# Altium footprint library L-Inductor_Choke.PCBLIB: 26 footprints (part 1 of 2)
Each footprint in its own frame and in the unit in brackets; x right, y up, seen from the top. Pads: shape width x height; smd on the part's side, far side on the other; paste and mask are expansions set on the pad; w line width, h text height; cw(c..) or ccw(c..) is an arc to the next point about the centre after c.
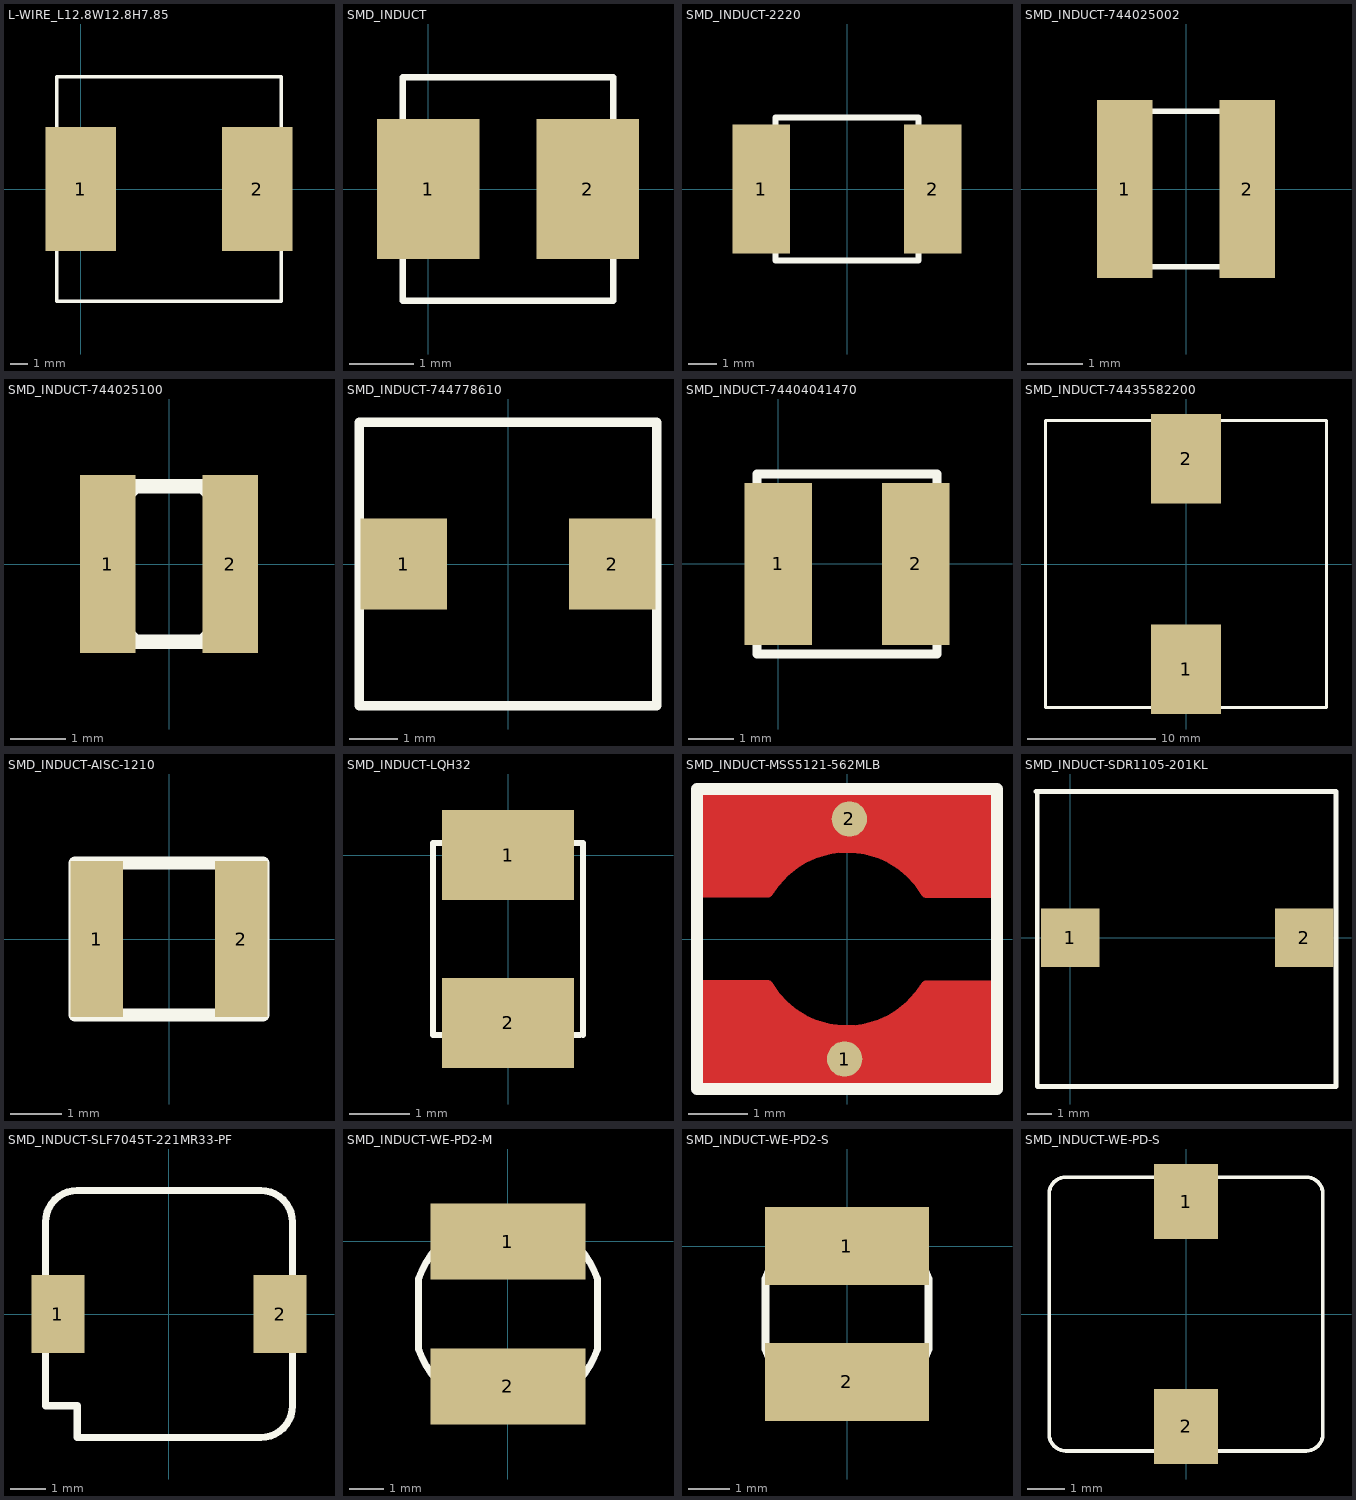
[diagram p0: the footprints below, top view; thin cyan lines are the x and y axes]

## L-WIRE_L12.8W12.8H7.85 [mm] "L-WIRE_L12.8W12.8H7.85"
height 8
pads (2):
  rect 4x7 smd: 1(0,0) 2(10,0)
Top Overlay:
  lines w0.2: -1.35,-6.35 11.35,-6.35 11.35,6.35 -1.35,6.35 -1.35,-6.35

## SMD_INDUCT [mm]
pads (2):
  rect 1.6x2.2 smd: 1(0,0) 2(2.5,0)
Top Overlay:
  lines w0.1: -0.4,-1.75 2.9,-1.75 2.9,1.75 -0.4,1.75 -0.4,-1.75

## SMD_INDUCT-2220 [mm] "SMD_INDUCT-2220"
height 5
pads (2):
  rect 2x4.5 smd: 1(-3,0) 2(3,0)
Top Overlay:
  lines w0.2: -2.5,-2.5 2.5,-2.5 2.5,2.5 -2.5,2.5 -2.5,-2.5

## SMD_INDUCT-744025002 [mm] "FIXED IND 2.2UH 1.8A 66 MOHM SMD"
height 2.8
pads (2):
  rect 1x3.2 smd: 1(-1.1,0) 2(1.1,0)
Top Overlay:
  lines w0.1: -1.4,-0.8 -1.4,0.8 -0.8,1.4 0.8,1.4 1.4,0.8 1.4,-0.8 0.8,-1.4 -0.8,-1.4 -1.4,-0.8

## SMD_INDUCT-744025100 [mm] "SMD_INDUCT-744025100"
height 2.8
pads (2):
  rect 1x3.2 smd: 1(-1.1,0) 2(1.1,0)
Top Overlay:
  lines w0.254: -1.4,-0.6 -1.4,0.6 -0.6,1.4 0.6,1.4 1.4,0.6 1.4,-0.6 0.6,-1.4 -0.6,-1.4 -1.4,-0.6

## SMD_INDUCT-744778610 [mm]
height 5.1
pads (2):
  rect 1.8x1.9 smd: 1(-2.175,0) 2(2.175,0)
Top Overlay:
  lines w0.2: -3.1,-2.95 3.1,-2.95 3.1,2.95 -3.1,2.95 -3.1,-2.95

## SMD_INDUCT-74404041470 [mm]
height 1.2
pads (2):
  rect 1.5x3.6 smd: 1(0,0) 2(3.05,0)
Top Overlay:
  lines w0.2: -0.475,-2 -0.475,2 3.525,2 3.525,-2 -0.475,-2

## SMD_INDUCT-74435582200 [mm] "SMD_INDUCT-74435582200"
height 12
pads (2):
  rect 5.5x7 smd: 1(0,-8.25) 2(0,8.25)
Top Overlay:
  lines w0.254: -11,-11.25 11,-11.25 11,11.25 -11,11.25 -11,-11.25

## SMD_INDUCT-AISC-1210 [mm]
height 2.7
pads (2):
  rect 1.02x3.02 smd: 1(-1.4,0) 2(1.4,0)
Top Overlay:
  lines w0.254: -1.825,-1.475 -1.825,1.475 1.825,1.475 1.825,-1.475 -1.825,-1.475

## SMD_INDUCT-LQH32 [mm]
pads (2):
  rect 2.2x1.5 smd: 1(0,0) 2(0,-2.8)
Top Overlay:
  lines w0.1: 1.2,-3 0.9,-3 -1.25,-3 -1.25,0.2 1.25,0.2 1.25,-3

## SMD_INDUCT-MSS5121-562MLB [mm] "SMD_INDUCT-MSS5121-562MLB"
height 2.2
pads (2):
  round 0.6 smd: 1(-0.04,-2.04) 2(0.04,2.04)
Top Layer:
  rectangle: -2.54,-2.54 -1.33,-0.8
  rectangle: 1.347,-2.54 2.54,-0.804
  rectangle: -1.41,-2.54 1.44,-1.59
  region: 2.54,2.54 1.33,2.54 1.33,0.8 2.54,0.8
  region: -1.347,2.54 -2.54,2.54 -2.54,0.804 -1.347,0.804
  region: 1.41,2.54 -1.44,2.54 -1.44,1.59 1.41,1.59
  lines w0.2: -2.54,0.8 -2.54,2.54 2.54,2.54 2.54,0.8 1.35,0.8 ccw(c0,0) -1.347,0.804 -2.536,0.804 ; 2.536,-0.804 1.347,-0.804 cw(c0,0) -1.35,-0.8 -2.54,-0.8 -2.54,-2.54 2.54,-2.54 2.54,-0.8
  lines w0.5: -1.555,-1.048 ccw(c0,0) 1.468,-1.167 ; -1.468,1.167 cw(c0,0) 1.555,1.048
Top Overlay:
  lines w0.2: -2.55,-2.55 -2.55,2.55 2.55,2.55 2.55,-2.55 -2.55,-2.55
Top Paste:
  region: 1.41,2.54 -1.44,2.54 -1.44,1.59 1.41,1.59
  region: -1.347,2.54 -2.54,2.54 -2.54,0.804 -1.347,0.804
  region: 2.54,2.54 1.33,2.54 1.33,0.8 2.54,0.8
  rectangle: -1.41,-2.54 1.44,-1.59
  rectangle: 1.347,-2.54 2.54,-0.804
  rectangle: -2.54,-2.54 -1.33,-0.8
  lines w0.2: -2.54,0.8 -2.54,2.54 2.54,2.54 2.54,0.8 1.35,0.8 ccw(c0,0) -1.347,0.804 -2.536,0.804 ; 2.536,-0.804 1.347,-0.804 cw(c0,0) -1.35,-0.8 -2.54,-0.8 -2.54,-2.54 2.54,-2.54 2.54,-0.8
  lines w0.5: -1.555,-1.048 ccw(c0,0) 1.468,-1.167 ; -1.468,1.167 cw(c0,0) 1.555,1.048
Top Solder:
  region: 1.41,2.54 -1.44,2.54 -1.44,1.59 1.41,1.59
  region: -1.347,2.54 -2.54,2.54 -2.54,0.804 -1.347,0.804
  region: 2.54,2.54 1.33,2.54 1.33,0.8 2.54,0.8
  rectangle: -1.41,-2.54 1.44,-1.59
  rectangle: 1.347,-2.54 2.54,-0.804
  rectangle: -2.54,-2.54 -1.33,-0.8
  lines w0.403: -2.54,0.8 -2.54,2.54 2.54,2.54 2.54,0.8 1.35,0.8 ccw(c0,0) -1.347,0.804 -2.536,0.804 ; 2.536,-0.804 1.347,-0.804 cw(c0,0) -1.35,-0.8 -2.54,-0.8 -2.54,-2.54 2.54,-2.54 2.54,-0.8
  lines w0.5: -1.555,-1.048 ccw(c0,0) 1.468,-1.167 ; -1.468,1.167 cw(c0,0) 1.555,1.048

## SMD_INDUCT-SDR1105-201KL [mm] "SMD_INDUCT-SDR1105-201KL"
height 4.8
pads (2):
  rect 2.4x2.4 smd: 1(0,0) 2(9.6,0)
Top Overlay:
  lines w0.2: -1.4,6 10.9,6 10.9,-6.1 -1.35,-6.1 -1.35,5.9

## SMD_INDUCT-SLF7045T-221MR33-PF [mm] "SLF7045T-221MR33-PF"
height 4.8
pads (2):
  rect 1.5x2.2 smd: 1(-3.15,0) 2(3.15,0)
Top Overlay:
  lines w0.2: -3.5,-2.6 -2.6,-2.6 -2.6,-3.5 2.6,-3.5 ccw(c2.6,-2.6) 3.5,-2.6 3.5,2.6 ccw(c2.6,2.6) 2.6,3.5 -2.6,3.5 ccw(c-2.6,2.6) -3.5,2.6 -3.5,-2.6

## SMD_INDUCT-WE-PD2-M [mm]
pads (2):
  rect 4.5x2.2 smd: 1(0.01,-0.005) 2(0.01,-4.205)
Top Overlay:
  lines w0.2: -2.59,-3.105 ccw(c0.01,-2.205) 2.61,-3.105 2.61,-1.105 ccw(c0.01,-2.005) -2.59,-1.105 -2.59,-3.105

## SMD_INDUCT-WE-PD2-S [mm]
pads (2):
  rect 4x1.9 smd: 1(-0.002,0.001) 2(-0.002,-3.3)
Top Overlay:
  lines w0.2: -1.987,-2.486 ccw(c-0.002,-1.8) 1.982,-2.486 1.982,-0.813 ccw(c-0.002,-1.5) -1.987,-0.813 -1.987,-2.486

## SMD_INDUCT-WE-PD-S [mm]
pads (2):
  rect 1.7x2 smd: 1(0,3) 2(0,-3)
Top Overlay:
  lines w0.1: -3.65,-3.2 ccw(c-3.2,-3.2) -3.2,-3.65 0,-3.65 3.2,-3.65 ccw(c3.2,-3.2) 3.65,-3.2 3.65,0 3.65,3.2 ccw(c3.2,3.2) 3.2,3.65 0,3.65 -3.2,3.65 ccw(c-3.2,3.2) -3.65,3.2 -3.65,0 -3.65,-3.2